# Altium integrated library BME790Library.IntLib: 46 symbols
Pins are listed as number, name and electrical type; pins without a type are passive.

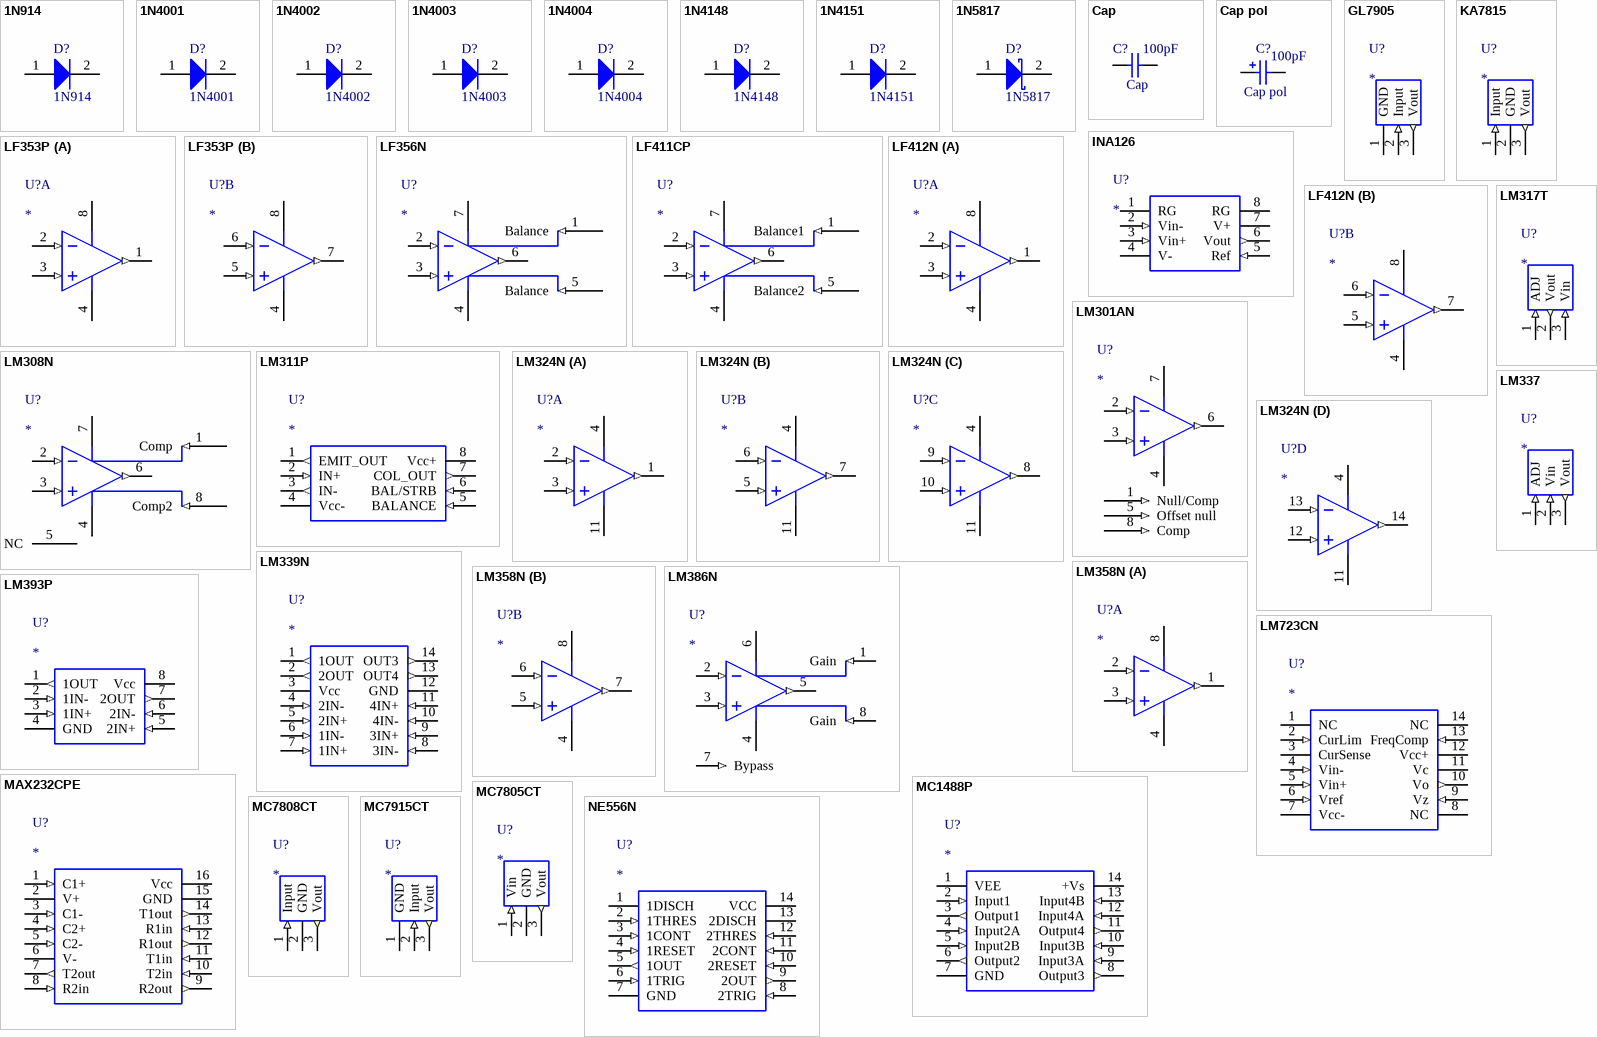
[diagram p0: symbols 1N914 to NE556N]

## 1N914
designator D?
High Conductance Fast Diode
footprint Diode
pins: 1 A, 2 K

## 1N4001
designator D?
General Purpose Rectifier
footprint Diode
pins: 1 A, 2 K

## 1N4002
designator D?
1 General Purpose Rectifier
footprint Diode
pins: 1 A, 2 K

## 1N4003
designator D?
1 General Purpose Rectifier
footprint Diode
pins: 1 A, 2 K

## 1N4004
designator D?
1 General Purpose Rectifier
footprint Diode
pins: 1 A, 2 K

## 1N4148
designator D?
High Conductance Fast Diode
footprint Diode
pins: 1 A, 2 K

## 1N4151
designator D?
High Conductance Fast Diode
footprint Diode
pins: 1 A, 2 K

## 1N5817
designator D?
Schottky Rectifier
footprint Diode
pins: 1 A, 2 K

## Cap
designator C?  value 100pF
Ceramic monolithic capacitor, thru-hole
footprint CAP1 (3mm leads spacing, ceramic monolithic)
footprint CAP2 (5.5mm lead-spacing, ceramic monolithic)
pins: 1, 2

## Cap pol
designator C?  value 100pF
Radial electrolytic polarized capacitor
footprint CAP3 (2.54mm lead-spacing, radial electrolytic capacitor)
pins: 1, 2
1 alternate drawing of the same symbol

## GL7905
designator U?
-5V power regulator
footprint TO220-3 (TO, Thru-Hole, Vertical, Heatsink Mounted; 3 In-Line Leads; Pitch 2.54 mm)
pins: 1 GND (power), 2 Input (in), 3 Vout (out)

## INA126
designator U?
Single dual-opamp InstAmp
footprint PDIP8
pins: 1 RG, 2 Vin- (in), 3 Vin+ (in), 4 V- (power), 5 Ref (in) "Balance for input offset voltage", 6 Vout (out), 7 V+ (power), 8 RG

## KA7815
designator U?
+15V power regulator
footprint TO220-3 (TO, Thru-Hole, Vertical, Heatsink Mounted; 3 In-Line Leads; Pitch 2.54 mm)
pins: 1 Input (in), 2 GND (power), 3 Vout (out)

## LF353P
designator U?
Wide-bandwidth JFET-Input dual opamp
footprint PDIP8
part A pins: 1 1OUT (out), 2 1IN- (in), 3 1IN+ (in), 4 Vcc- (power), 8 Vcc+ (power)
part B pins: 4 Vcc- (power), 5 2IN+ (in), 6 2IN- (in), 7 2OUT (out), 8 Vcc+ (power)

## LF356N
designator U?
Single JFET-Input opamp
footprint PDIP8
pins: 1 Balance (in) "Balance for input offset voltage", 2 IN- (in), 3 IN+ (in), 4 Vcc- (power), 5 Balance (in) "Balance for input offset voltage", 6 OUT (out), 7 Vcc+ (power)

## LF411CP
designator U?
Single JFET-Input opamp
footprint PDIP8
pins: 1 Balance1 (in) "Balance for input offset voltage", 2 IN- (in), 3 IN+ (in), 4 Vcc- (power), 5 Balance2 (in) "Balance for input offset voltage", 6 OUT (out), 7 Vcc+ (power)

## LF412N
designator U?
Low offset, low drift Dual JFET-Input opamp
footprint PDIP8
part A pins: 1 OUTA (out), 2 -INA (in), 3 +INA (in), 4 V- (power), 8 V+ (power)
part B pins: 4 V- (power), 5 +INB (in), 6 -INB (in), 7 OUTB (out), 8 V+ (power)

## LM301AN
designator U?
Single opamp
footprint PDIP8
pins: 1 Null/Comp (in), 2 IN- (in), 3 IN+ (in), 4 Vcc- (power), 5 Offset null (in), 6 OUT (out), 7 Vcc+ (power), 8 Comp (in)

## LM308N
designator U?
Single opamp
footprint PDIP8
pins: 1 Comp (in), 2 IN- (in), 3 IN+ (in), 4 Vcc- (power), 5 NC "No connect", 6 OUT (out), 7 Vcc+ (power), 8 Comp2 (in)

## LM311P
designator U?
Differential comparator
footprint PDIP8
pins: 1 EMIT_OUT (out), 2 IN+ (in), 3 IN- (out), 4 Vcc- (power), 5 BALANCE (in) "Balance for input offset voltage", 6 BAL/STRB (in), 7 COL_OUT (out), 8 Vcc+ (power)

## LM317T
designator U?
Adjustable power regulator
footprint TO220-3 (TO, Thru-Hole, Vertical, Heatsink Mounted; 3 In-Line Leads; Pitch 2.54 mm)
pins: 1 ADJ (in), 2 Vout (out), 3 Vin (in)

## LM324N
designator U?
Quad opamp
footprint PDIP14
part A pins: 1 OUT1 (out), 2 IN1- (in), 3 IN1+ (in), 4 Vcc (power), 11 GND (power)
part B pins: 4 Vcc (power), 5 IN2+ (in), 6 IN2- (in), 7 OUT2 (out), 11 GND (power)
part C pins: 4 Vcc (power), 8 OUT3 (out), 9 IN3- (in), 10 IN3+ (in), 11 GND (power)
part D pins: 4 Vcc (power), 11 GND (power), 12 IN4+ (in), 13 IN4- (in), 14 OUT4 (out)

## LM337
designator U?
Adjustable power regulator
footprint TO220-3 (TO, Thru-Hole, Vertical, Heatsink Mounted; 3 In-Line Leads; Pitch 2.54 mm)
pins: 1 ADJ (in), 2 Vin (in), 3 Vout (out)

## LM339N
designator U?
Quad differential comparator
footprint PDIP14
pins: 1 1OUT (out), 2 2OUT (out), 3 Vcc (power), 4 2IN- (in), 5 2IN+ (in) "Balance for input offset voltage", 6 1IN- (in), 7 1IN+ (in), 8 3IN- (in), 9 3IN+ (in), 10 4IN- (in), 11 4IN+ (in), 12 GND (power), 13 OUT4 (out), 14 OUT3 (out)

## LM358N
designator U?
Low power dual opamp
footprint PDIP8
part A pins: 1 OUTA (out), 2 -INA (in), 3 +INA (in), 4 GND (power), 8 V+ (power)
part B pins: 4 GND (power), 5 +INB (in), 6 -INB (in), 7 OUTB (out), 8 V+ (power)

## LM386N
designator U?
Low voltage audio opamp
footprint PDIP8
pins: 1 Gain (in) "Gain adjustment", 2 IN- (in), 3 IN+ (in), 4 GND (power), 5 Vout (out), 6 Vs (power), 7 Bypass (in), 8 Gain (in) "Gain adjustment"

## LM393P
designator U?
Dual differential comparator
footprint PDIP8
pins: 1 1OUT (out), 2 1IN- (in), 3 1IN+ (in), 4 GND (power), 5 2IN+ (in) "Balance for input offset voltage", 6 2IN- (in), 7 2OUT (out), 8 Vcc (power)

## LM723CN
designator U?
2-37V Adjustable Power Regulator
footprint PDIP14
pins: 1 NC, 2 CurLim (in), 3 CurSense (oe), 4 Vin- (in), 5 Vin+ (in), 6 Vref (in), 7 Vcc- (power), 8 NC, 9 Vz (in), 10 Vo (out), 11 Vc (oc), 12 Vcc+ (power), 13 FreqComp (in), 14 NC

## MAX232CPE
designator U?
+5V-powered, multichannel RS-232 transceivers
footprint PDIP16
pins: 1 C1+ (in), 2 V+ (power), 3 C1- (in), 4 C2+ (in), 5 C2- (in), 6 V- (power), 7 T2out (out), 8 R2in (in), 9 R2out (out), 10 T2in (in), 11 T1in (in), 12 R1out (out), 13 R1in (in), 14 T1out (out), 15 GND (power), 16 Vcc (power)

## MC1488P
designator U?
RS-232 quad line driver
footprint PDIP14
pins: 1 VEE (power), 2 Input1 (in), 3 Output1 (out), 4 Input2A (in), 5 Input2B (in), 6 Output2 (out), 7 GND (power), 8 Output3 (out), 9 Input3A (in), 10 Input3B (in), 11 Output4 (out), 12 Input4A (in), 13 Input4B (in), 14 +Vs (power)

## MC7805CT
designator U?
+5V power regulator
footprint TO220-3 (TO, Thru-Hole, Vertical, Heatsink Mounted; 3 In-Line Leads; Pitch 2.54 mm)
pins: 1 Vin (in), 2 GND (power), 3 Vout (out)

## MC7808CT
designator U?
+8V power regulator
footprint TO220-3 (TO, Thru-Hole, Vertical, Heatsink Mounted; 3 In-Line Leads; Pitch 2.54 mm)
pins: 1 Input (in), 2 GND (power), 3 Vout (out)

## MC7915CT
designator U?
-15V power regulator
footprint TO220-3 (TO, Thru-Hole, Vertical, Heatsink Mounted; 3 In-Line Leads; Pitch 2.54 mm)
pins: 1 GND (power), 2 Input (in), 3 Vout (out)

## NE556N
designator U?
Dual precision timers
footprint PDIP14
pins: 1 1DISCH (oc), 2 1THRES (in), 3 1CONT (in), 4 1RESET (in), 5 1OUT (out), 6 1TRIG (in), 7 GND (power), 8 2TRIG (in), 9 2OUT (out), 10 2RESET (in), 11 2CONT (in), 12 2THRES (in), 13 2DISCH (oc), 14 VCC (power)

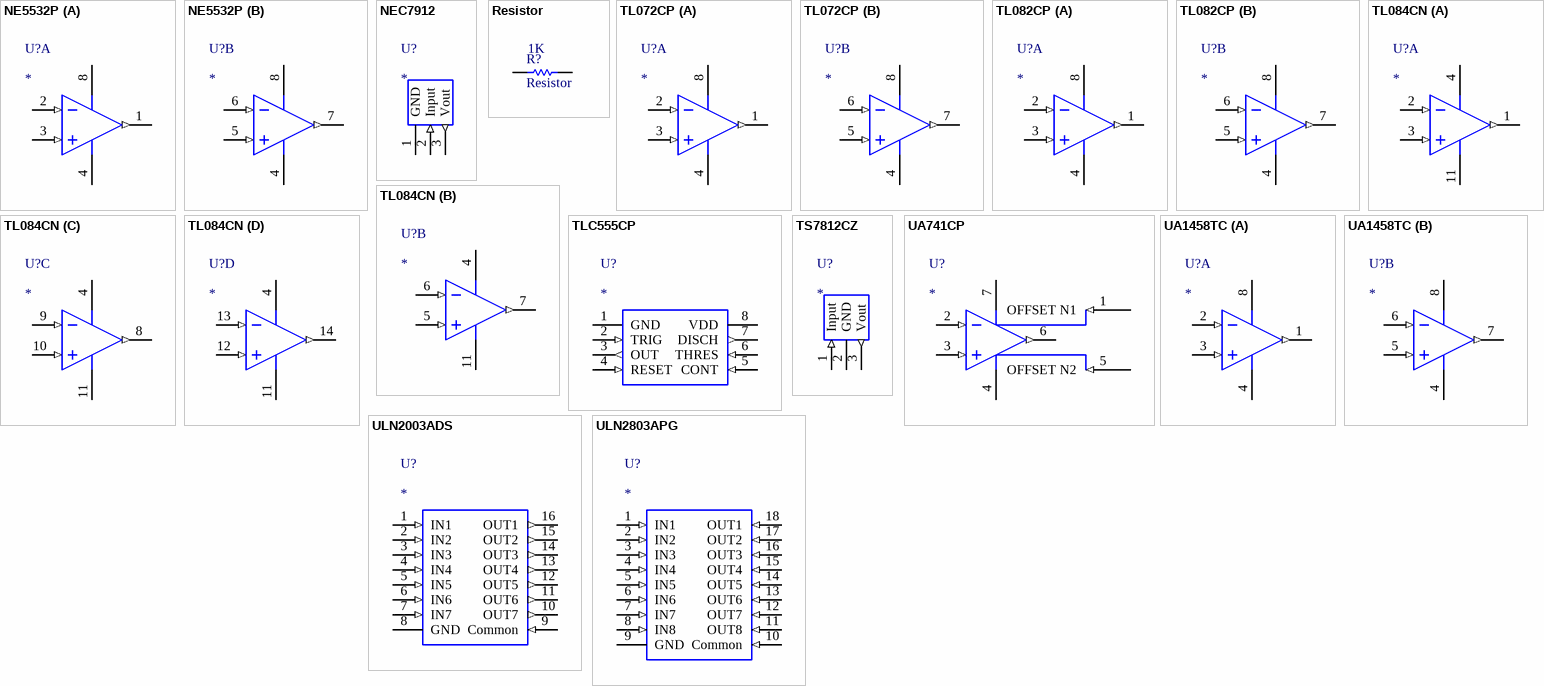
[diagram p1: symbols NE5532P to ULN2803APG]

## NE5532P
designator U?
Low-noise dual opamp
footprint PDIP8
part A pins: 1 OUT1 (out), 2 1IN- (in), 3 1IN+ (in), 4 Vcc- (power), 8 Vcc+ (power)
part B pins: 4 Vcc- (power), 5 2IN+ (in), 6 2IN- (in), 7 2OUT (out), 8 Vcc+ (power)

## NEC7912
designator U?
-12V power regulator
footprint TO220-3 (TO, Thru-Hole, Vertical, Heatsink Mounted; 3 In-Line Leads; Pitch 2.54 mm)
pins: 1 GND (power), 2 Input (in), 3 Vout (out)

## Resistor
designator R?  value 1K
footprint RES
pins: 1, 2

## TL072CP
designator U?
Low-Noise JFET-Input dual opamp
footprint PDIP8
part A pins: 1 1OUT (out), 2 1IN- (in), 3 1IN+ (in), 4 Vcc- (power), 8 Vcc+ (power)
part B pins: 4 Vcc- (power), 5 2IN+ (in), 6 2IN- (in), 7 2OUT (out), 8 Vcc+ (power)

## TL082CP
designator U?
JFET-Input dual opamp
footprint PDIP8
part A pins: 1 1OUT (out), 2 1IN- (in), 3 1IN+ (in), 4 Vcc- (power), 8 Vcc+ (power)
part B pins: 4 Vcc- (power), 5 2IN+ (in), 6 2IN- (in), 7 2OUT (out), 8 Vcc+ (power)

## TL084CN
designator U?
JFET-Input Quad opamp
footprint PDIP14
part A pins: 1 OUT1 (out), 2 IN1- (in), 3 IN1+ (in), 4 Vcc+ (power), 11 Vcc- (power)
part B pins: 4 Vcc+ (power), 5 IN2+ (in), 6 IN2- (in), 7 OUT2 (out), 11 Vcc- (power)
part C pins: 4 Vcc+ (power), 8 OUT3 (out), 9 IN3- (in), 10 IN3+ (in), 11 Vcc- (power)
part D pins: 4 Vcc+ (power), 11 Vcc- (power), 12 IN4+ (in), 13 IN4- (in), 14 OUT4 (out)

## TLC555CP
designator U?
LinCMOS 555-Timer
footprint PDIP8
pins: 1 GND (power), 2 TRIG (in), 3 OUT (out), 4 RESET (in), 5 CONT (in) "Balance for input offset voltage", 6 THRES (in), 7 DISCH (out), 8 VDD (power)

## TS7812CZ
designator U?
+12V power regulator
footprint TO220-3 (TO, Thru-Hole, Vertical, Heatsink Mounted; 3 In-Line Leads; Pitch 2.54 mm)
pins: 1 Input (in), 2 GND (power), 3 Vout (out)

## UA741CP
designator U?
Single general purpose opamp with offset pins
footprint PDIP8
pins: 1 OFFSET N1 (in) "Offset", 2 IN- (in), 3 IN+ (in), 4 Vcc- (power), 5 OFFSET N2 (in) "OFFSET", 6 OUT (out), 7 Vcc+ (power)

## UA1458TC
designator U?
Dual opamp
footprint PDIP8
part A pins: 1 OUTA (out), 2 -INA (in), 3 +INA (in), 4 V- (power), 8 V+ (power)
part B pins: 4 V- (power), 5 +INB (in), 6 -INB (in), 7 OUTB (out), 8 V+ (power)

## ULN2003ADS
designator U?
7ch darlington sink driver
footprint PDIP18
pins: 1 IN1 (in), 2 IN2 (in), 3 IN3 (in), 4 IN4 (in), 5 IN5 (in), 6 IN6 (in), 7 IN7 (in), 8 GND (power), 9 Common (in), 10 OUT7 (out), 11 OUT6 (out), 12 OUT5 (out), 13 OUT4 (out), 14 OUT3 (out), 15 OUT2 (out), 16 OUT1 (out)

## ULN2803APG
designator U?
8ch darlington sink driver
footprint PDIP18
pins: 1 IN1 (in), 2 IN2 (in), 3 IN3 (in), 4 IN4 (in), 5 IN5 (in), 6 IN6 (in), 7 IN7 (in), 8 IN8 (in), 9 GND (power), 10 Common (in), 11 OUT8 (in), 12 OUT7 (in), 13 OUT6 (in), 14 OUT5 (in), 15 OUT4 (in), 16 OUT3 (in), 17 OUT2 (in), 18 OUT1 (in)